# Altium integrated library AD RF and IF Frequency Synthesiser.IntLib: 6 symbols
Pins are listed as number, name and electrical type; pins without a type are passive.

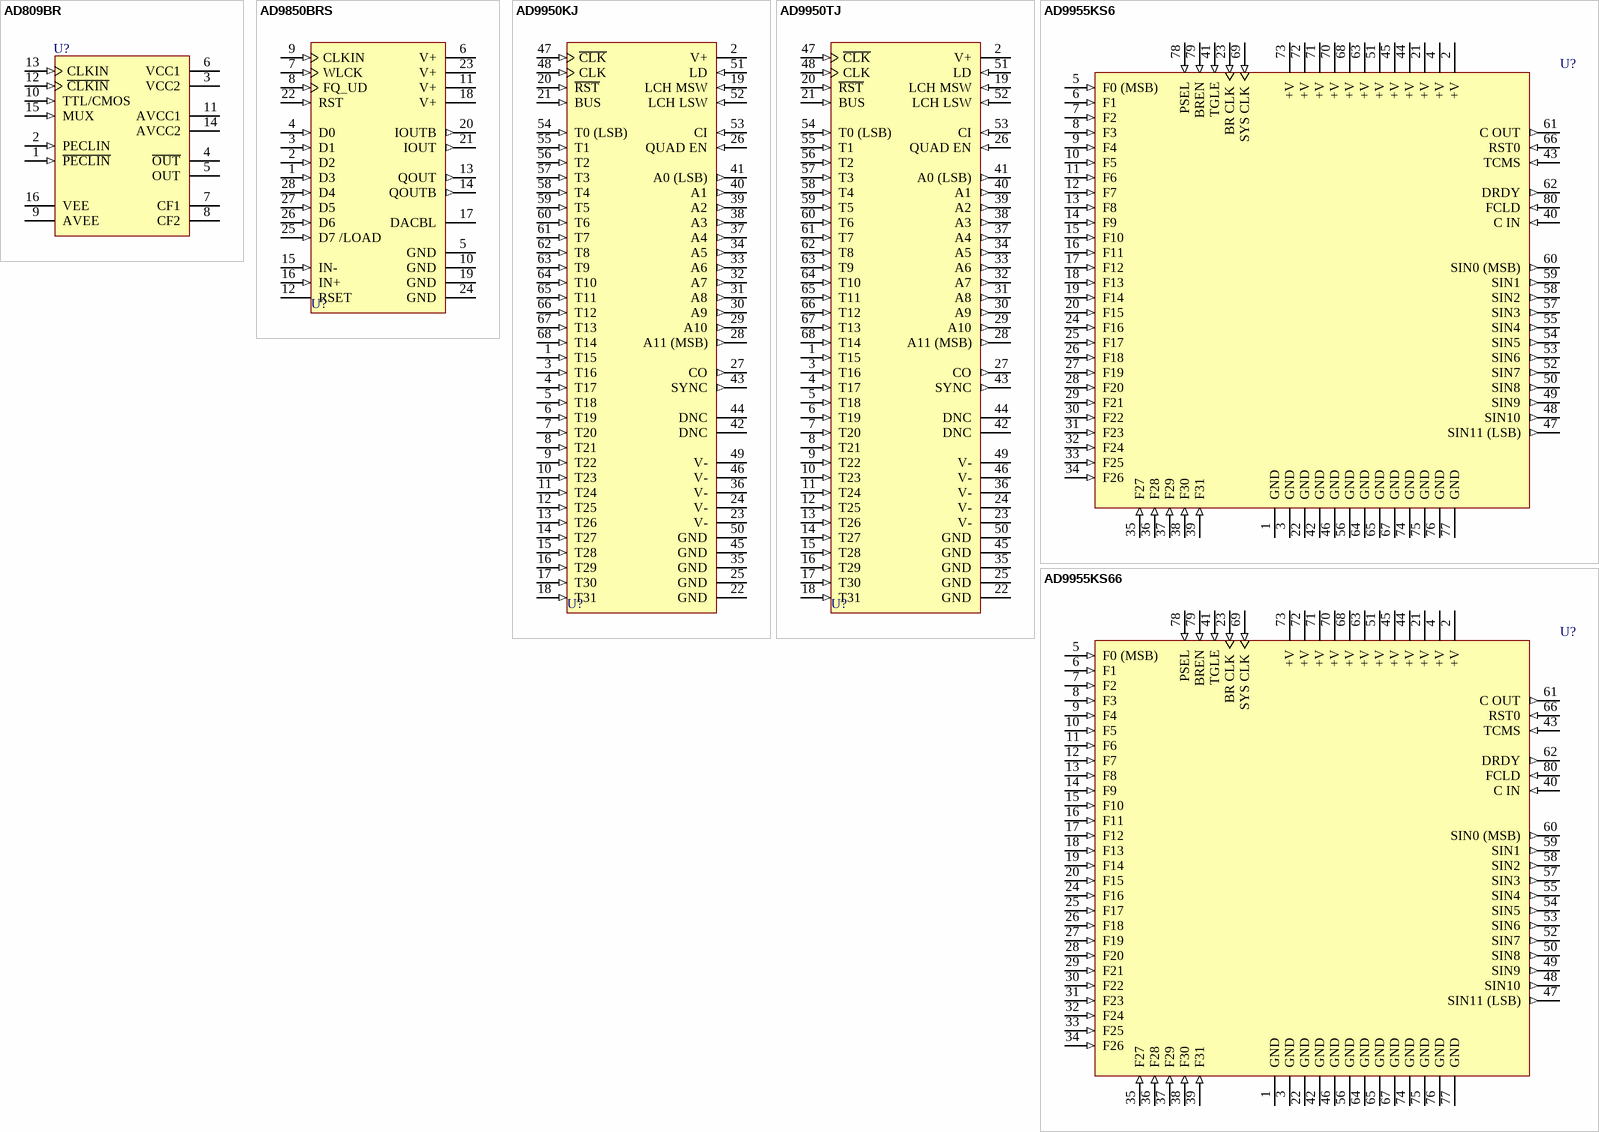
[diagram p0: symbols AD809BR to AD9955KS66]

## AD809BR
designator U?
155.52MHz Frequency Synthesizer; Published: 8-Jun-2000; LatestRevisionDate: 13-Apr-2006; LatestRevisionNote: IPC-7351 Footprint Added.; DatasheetVersion: Rev.A 1997; PackageReference: R-16A; Publisher: Altium Limited; PackageDescription: 16-Pin Small Outline Integrated Circuit 1.27 mm Pitch; Code_JEDEC: MS-012-AC; Code_IPC: SOIC127P600-16; ComponentLink1Description: Manufacturer Link; ComponentLink1URL: http://www.analog.com/en/prod/0%2C2877%2CAD809%2C00.html; ComponentLink2Description: Datasheet; ComponentLink2URL: http://www.analog.com/UploadedFiles/Data_Sheets/653287459AD809_a.pdf
footprint R-16A_N (SOIC, 16-Leads, Body 9.9x3.9mm, Pitch 1.27mm, IPC Medium Density)
footprint R-16A_L (SOIC, 16-Leads, Body 9.9x3.9mm, Pitch 1.27mm, IPC High Density)
footprint R-16A_M (SOIC, 16-Leads, Body 9.9x3.9mm, Pitch 1.27mm, IPC Low Density)
3D model R-16A (16-Pin Small Outline Integrated Circuit 1.27 mm Pitch)
pins: 1 ~{PECLIN} (in), 2 PECLIN (in), 3 VCC2 (power), 4 ~{OUT} (oe), 5 OUT (oe), 6 VCC1 (power), 7 CF1, 8 CF2, 9 AVEE (power), 10 TTL/CMOS (in), 11 AVCC1 (power), 12 ~{CLKIN} (in), 13 CLKIN (in), 14 AVCC2 (power), 15 MUX (in), 16 VEE (power)

## AD9850BRS
designator U?
CMOS, 125MHz Complete DDS Synthesizer; Note: Pin 17 is unconnected for optimum performance; Published: 8-Jun-2000; LatestRevisionDate: 04-Mar-2005; LatestRevisionNote: Stylized 3D Model Added.; DatasheetVersion: Rev.A 1997; PackageVersion: revA, 1997; PackageReference: RS-28; Publisher: Altium Limited; PackageDescription: SSOP; 28 Leads; Body Width 5.3 mm; Pitch 0.65 mm; ComponentLink1Description: Manufacturer Link; ComponentLink1URL: http://www.analog.com/en/prod/0%2C2877%2CAD9850%2C00.html; ComponentLink2Description: Datasheet; ComponentLink2URL: http://www.analog.com/UploadedFiles/Data_Sheets/34008438159094AD9850_h.pdf
footprint RS-28 (SSOP; 28 Leads; Body Width 5.3 mm; Pitch 0.65 mm)
3D model RS-28 (SSOP; 28 Leads; Body Width 5.3 mm; Pitch 0.65 mm)
pins: 1 D3 (in), 2 D2 (in), 3 D1 (in), 4 D0 (in), 5 GND (power), 6 V+ (power), 7 WLCK (in), 8 FQ_UD (in), 9 CLKIN (in), 10 GND (power), 11 V+ (power), 12 RSET, 13 QOUT (out), 14 QOUTB (out), 15 IN- (in), 16 IN+ (in), 17 DACBL, 18 V+ (power), 19 GND (power), 20 IOUTB (out), 21 IOUT (out), 22 RST (in), 23 V+ (power), 24 GND (power), 25 D7 /LOAD (in), 26 D6 (in), 27 D5 (in), 28 D4 (in)

## AD9950KJ
designator U?
32-Bit, 300 MSPS Phase Accumulator for DDS; Published: 8-Jun-2000; LatestRevisionDate: 13-Apr-2006; LatestRevisionNote: IPC-7351 Footprint Added.; DatasheetVersion: Rev.A 1992; PackageReference: J-68; Publisher: Altium Limited; PackageDescription: 68-Pin Leaded Chip Carrier 1.27 mm Pitch; ComponentLink1Description: Manufacturer Link; ComponentLink1URL: http://www.analog.com/
footprint J-68_N (Leaded Chip Carrier, 68-Leads, Body 24x24mm, Pitch 1.27mm, IPC Medium Density)
footprint J-68_L (Leaded Chip Carrier, 68-Leads, Body 24x24mm, Pitch 1.27mm, IPC High Density)
footprint J-68_M (Leaded Chip Carrier, 68-Leads, Body 24x24mm, Pitch 1.27mm, IPC Low Density)
3D model 9950-J68 (68-Pin Leaded Chip Carrier 1.27 mm Pitch)
pins: 1 T15 (in), 2 V+ (power), 3 T16 (in), 4 T17 (in), 5 T18 (in), 6 T19 (in), 7 T20 (in), 8 T21 (in), 9 T22 (in), 10 T23 (in), 11 T24 (in), 12 T25 (in), 13 T26 (in), 14 T27 (in), 15 T28 (in), 16 T29 (in), 17 T30 (in), 18 T31 (in), 19 LCH MSW (in), 20 ~{RST} (in), 21 BUS (in), 22 GND (power), 23 V- (power), 24 V- (power), 25 GND (power), 26 QUAD EN (in), 27 CO (out), 28 A11 (MSB) (out), 29 A10 (out), 30 A9 (out), 31 A8 (out), 32 A7 (out), 33 A6 (out), 34 A5 (out), 35 GND (power), 36 V- (power), 37 A4 (out), 38 A3 (out), 39 A2 (out), 40 A1 (out), 41 A0 (LSB) (out), 42 DNC, 43 SYNC (out), 44 DNC, 45 GND (power), 46 V- (power), 47 ~{CLK} (in), 48 CLK (in), 49 V- (power), 50 GND (power), 51 LD (in), 52 LCH LSW (in), 53 CI (in), 54 T0 (LSB) (in), 55 T1 (in), 56 T2 (in), 57 T3 (in), 58 T4 (in), 59 T5 (in), 60 T6 (in), 61 T7 (in), 62 T8 (in), 63 T9 (in), 64 T10 (in), 65 T11 (in), 66 T12 (in), 67 T13 (in), 68 T14 (in)

## AD9950TJ
designator U?
32-Bit, 300 MSPS Phase Accumulator for DDS; Published: 8-Jun-2000; LatestRevisionDate: 13-Apr-2006; LatestRevisionNote: IPC-7351 Footprint Added.; DatasheetVersion: Rev.A 1992; PackageReference: J-68; Publisher: Altium Limited; PackageDescription: 68-Pin Leaded Chip Carrier 1.27 mm Pitch; ComponentLink1Description: Manufacturer Link; ComponentLink1URL: http://www.analog.com/
footprint J-68_N (Leaded Chip Carrier, 68-Leads, Body 24x24mm, Pitch 1.27mm, IPC Medium Density)
footprint J-68_L (Leaded Chip Carrier, 68-Leads, Body 24x24mm, Pitch 1.27mm, IPC High Density)
footprint J-68_M (Leaded Chip Carrier, 68-Leads, Body 24x24mm, Pitch 1.27mm, IPC Low Density)
3D model 9950-J68 (68-Pin Leaded Chip Carrier 1.27 mm Pitch)
pins: 1 T15 (in), 2 V+ (power), 3 T16 (in), 4 T17 (in), 5 T18 (in), 6 T19 (in), 7 T20 (in), 8 T21 (in), 9 T22 (in), 10 T23 (in), 11 T24 (in), 12 T25 (in), 13 T26 (in), 14 T27 (in), 15 T28 (in), 16 T29 (in), 17 T30 (in), 18 T31 (in), 19 LCH MSW (in), 20 ~{RST} (in), 21 BUS (in), 22 GND (power), 23 V- (power), 24 V- (power), 25 GND (power), 26 QUAD EN (in), 27 CO (out), 28 A11 (MSB) (out), 29 A10 (out), 30 A9 (out), 31 A8 (out), 32 A7 (out), 33 A6 (out), 34 A5 (out), 35 GND (power), 36 V- (power), 37 A4 (out), 38 A3 (out), 39 A2 (out), 40 A1 (out), 41 A0 (LSB) (out), 42 DNC, 43 SYNC (out), 44 DNC, 45 GND (power), 46 V- (power), 47 ~{CLK} (in), 48 CLK (in), 49 V- (power), 50 GND (power), 51 LD (in), 52 LCH LSW (in), 53 CI (in), 54 T0 (LSB) (in), 55 T1 (in), 56 T2 (in), 57 T3 (in), 58 T4 (in), 59 T5 (in), 60 T6 (in), 61 T7 (in), 62 T8 (in), 63 T9 (in), 64 T10 (in), 65 T11 (in), 66 T12 (in), 67 T13 (in), 68 T14 (in)

## AD9955KS6
designator U?
85MHz Direct Digital Synthesizer; Published: 8-Jun-2000; LatestRevisionDate: 13-Apr-2006; LatestRevisionNote: IPC-7351 Footprint Added.; DatasheetVersion: Rev.A 1994; PackageVersion: 1996; PackageReference: S-80; Publisher: Altium Limited; PackageDescription: 80-Pin Quad Flat Pack 0.65 mm Pitch; Code_IPC: QFP65P1720X1720-80; ComponentLink1Description: Manufacturer Link; ComponentLink1URL: http://www.analog.com/
footprint S-80_N (QFP, 80-Leads, Body 14 x 14mm, Pitch 0.65mm, IPC Medium Density)
footprint S-80_L (QFP, 80-Leads, Body 14 x 14mm, Pitch 0.65mm, IPC High Density)
footprint S-80_M (QFP, 80-Leads, Body 14 x 14mm, Pitch 0.65mm, IPC Low Density)
3D model 9955-S80 (80-Pin Quad Flat Pack 0.65 mm Pitch)
pins: 1 GND (power), 2 +V (power), 3 GND (power), 4 +V (power), 5 F0 (MSB) (in), 6 F1 (in), 7 F2 (in), 8 F3 (in), 9 F4 (in), 10 F5 (in), 11 F6 (in), 12 F7 (in), 13 F8 (in), 14 F9 (in), 15 F10 (in), 16 F11 (in), 17 F12 (in), 18 F13 (in), 19 F14 (in), 20 F15 (in), 21 +V (power), 22 GND (power), 23 BR CLK (in), 24 F16 (in), 25 F17 (in), 26 F18 (in), 27 F19 (in), 28 F20 (in), 29 F21 (in), 30 F22 (in), 31 F23 (in), 32 F24 (in), 33 F25 (in), 34 F26 (in), 35 F27 (in), 36 F28 (in), 37 F29 (in), 38 F30 (in), 39 F31 (in), 40 C IN (in), 41 TGLE (in), 42 GND (power), 43 TCMS (in), 44 +V (power), 45 +V (power), 46 GND (power), 47 SIN11 (LSB) (out), 48 SIN10 (out), 49 SIN9 (out), 50 SIN8 (out), 51 +V (power), 52 SIN7 (out), 53 SIN6 (out), 54 SIN5 (out), 55 SIN4 (out), 56 GND (power), 57 SIN3 (out), 58 SIN2 (out), 59 SIN1 (out), 60 SIN0 (MSB) (out), 61 C OUT (out), 62 DRDY (out), 63 +V (power), 64 GND (power), 65 GND (power), 66 RST0 (in), 67 GND (power), 68 +V (power), 69 SYS CLK (in), 70 +V (power), 71 +V (power), 72 +V (power), 73 +V (power), 74 GND (power), 75 GND (power), 76 GND (power), 77 GND (power), 78 PSEL (in), 79 BREN (in), 80 FCLD (in)

## AD9955KS66
designator U?
85MHz Direct Digital Synthesizer; Published: 8-Jun-2000; LatestRevisionDate: 13-Apr-2006; LatestRevisionNote: IPC-7351 Footprint Added.; DatasheetVersion: Rev.A 1994; PackageVersion: 1996; PackageReference: S-80; Publisher: Altium Limited; PackageDescription: 80-Pin Quad Flat Pack 0.65 mm Pitch; Code_IPC: QFP65P1720X1720-80; ComponentLink1Description: Manufacturer Link; ComponentLink1URL: http://www.analog.com/
footprint S-80_N (QFP, 80-Leads, Body 14 x 14mm, Pitch 0.65mm, IPC Medium Density)
footprint S-80_L (QFP, 80-Leads, Body 14 x 14mm, Pitch 0.65mm, IPC High Density)
footprint S-80_M (QFP, 80-Leads, Body 14 x 14mm, Pitch 0.65mm, IPC Low Density)
3D model 9955-S80 (80-Pin Quad Flat Pack 0.65 mm Pitch)
pins: 1 GND (power), 2 +V (power), 3 GND (power), 4 +V (power), 5 F0 (MSB) (in), 6 F1 (in), 7 F2 (in), 8 F3 (in), 9 F4 (in), 10 F5 (in), 11 F6 (in), 12 F7 (in), 13 F8 (in), 14 F9 (in), 15 F10 (in), 16 F11 (in), 17 F12 (in), 18 F13 (in), 19 F14 (in), 20 F15 (in), 21 +V (power), 22 GND (power), 23 BR CLK (in), 24 F16 (in), 25 F17 (in), 26 F18 (in), 27 F19 (in), 28 F20 (in), 29 F21 (in), 30 F22 (in), 31 F23 (in), 32 F24 (in), 33 F25 (in), 34 F26 (in), 35 F27 (in), 36 F28 (in), 37 F29 (in), 38 F30 (in), 39 F31 (in), 40 C IN (in), 41 TGLE (in), 42 GND (power), 43 TCMS (in), 44 +V (power), 45 +V (power), 46 GND (power), 47 SIN11 (LSB) (out), 48 SIN10 (out), 49 SIN9 (out), 50 SIN8 (out), 51 +V (power), 52 SIN7 (out), 53 SIN6 (out), 54 SIN5 (out), 55 SIN4 (out), 56 GND (power), 57 SIN3 (out), 58 SIN2 (out), 59 SIN1 (out), 60 SIN0 (MSB) (out), 61 C OUT (out), 62 DRDY (out), 63 +V (power), 64 GND (power), 65 GND (power), 66 RST0 (in), 67 GND (power), 68 +V (power), 69 SYS CLK (in), 70 +V (power), 71 +V (power), 72 +V (power), 73 +V (power), 74 GND (power), 75 GND (power), 76 GND (power), 77 GND (power), 78 PSEL (in), 79 BREN (in), 80 FCLD (in)